# EAGLE library part SYNCHRONSCHALTER (library pkess_spezial)
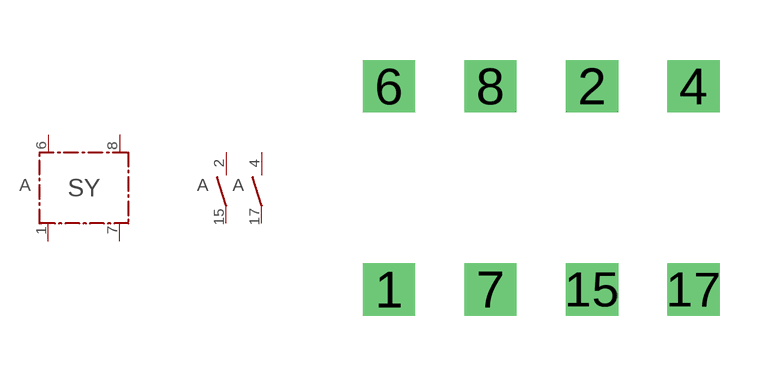
[diagram p0: symbol with the pads of SYNCHRONSCHALTER; footprint SYNCHRONSCHALTER]

Designator prefix A; gates G$1=SYNCHRONSCHALTER G$2=KONTAKT_SCHLIESSER G$3=KONTAKT_SCHLIESSER

## SYNCHRONSCHALTER  [SYNCHRONSCHALTER]
1  G$1:4  pas
2  G$2:3  pas
4  G$3:3  pas
6  G$1:3  pas
7  G$1:2  pas
8  G$1:1  pas
15  G$2:4  pas
17  G$3:4  pas

## Footprint SYNCHRONSCHALTER (pad centres in mm)
drill 0.8 square: 1 -3.81,-2.54; 2 1.27,2.54; 4 3.81,2.54; 6 -3.81,2.54; 7 -1.27,-2.54; 8 -1.27,2.54; 15 1.27,-2.54; 17 3.81,-2.54